# Altium footprint library CON8_100mil.PcbLib: 1 footprints
Each footprint in its own frame and in the unit in brackets; x right, y up, seen from the top. Pads: shape width x height; smd on the part's side, far side on the other; paste and mask are expansions set on the pad; w line width, h text height; cw(c..) or ccw(c..) is an arc to the next point about the centre after c.
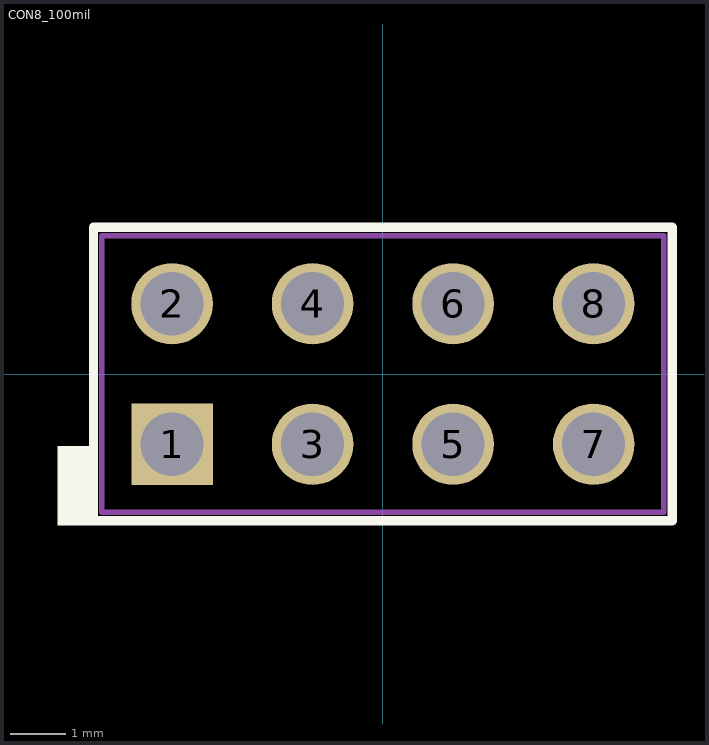
[diagram p0: the footprint, top view; thin cyan lines are the x and y axes]

## CON8_100mil [mil] "8 pin header (2 rows x 4)"
pads (8):
  rect 58x58 / inner rect 58x58 / far side rect 70x70 hole 45 mask+3.15: 1(-150,-50)
  round 58 / inner round 58 / far side round 70 hole 45 mask+3.15: 2(-150,50) 3(-50,-50) 5(50,-50) 6(50,50) 7(150,-50) 8(150,50)
  round 58 / inner round 58 / far side round 70 hole 45: 4(-50,50)
Top Overlay:
  region: -205.91,-107.68 -205.91,-51.18 -231.5,-51.18 -231.5,-107.68
  lines w6.69: -205.91,-104.33 -205.91,25.59 -205.91,104.33 205.91,104.33 205.91,-104.33 -205.91,-104.33
Mechanical 5:
  lines w3.94: 199.41,98.43 -200,98.43 -200,-98.43 200,-98.43 200,98.43
3D body "702871002.stp": height 330, standoff -125, extent -199.99,-99.99 200.01,100.01
3D body: height 100, standoff -100, extent -97.24,-772.64 -97.24,-772.64